# Altium schematic symbol library LMP7701MA_NOPB.SchLib: 1 symbol
Pins are listed as number, name and electrical type; pins without a type are passive.

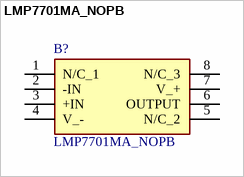
[diagram p0: symbol LMP7701MA_NOPB]

## LMP7701MA_NOPB
designator B?
Precision, CMOS Input, RRIO, Wide Supply Range Single Amplifier; Manufacturer_Name: Texas Instruments; Manufacturer_Part_Number: LMP7701MA/NOPB; Geometry.Height: 1.75mm; Mouser Part Number: 926-LMP7701MA/NOPB; Mouser Price/Stock: https://www.mouser.co.uk/ProductDetail/Texas-Instruments/LMP7701MA-NOPB?qs=7lkVKPoqpbb6Q12lvZ%252Bsng%3D%3D; Datasheet Link: http://www.ti.com/lit/gpn/lmp7701
footprint SOIC127P600X175-8N
pins: 1 N/C_1, 2 -IN, 3 +IN, 4 V_-, 5 N/C_2, 6 OUTPUT, 7 V_+, 8 N/C_3